# EAGLE library part CS5381-KSZ (library Cirrus_Logic_By_element14_Batch_1)
A/D Converter
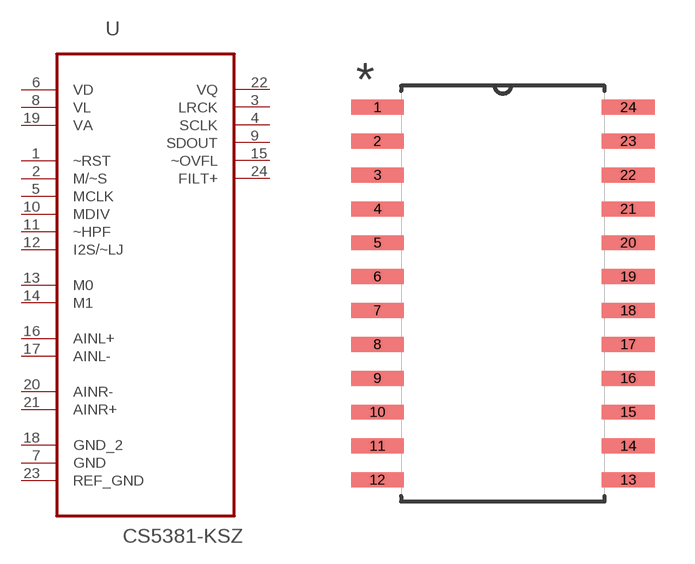
[diagram p15: symbol with the pads of SOIC127P1032X265-24N; footprint SOIC127P1032X265-24N]

Designator prefix U

## CS5381-KSZ (MPN: CS5381-KSZ; OC_FARNELL: 1023416; OC_NEWARK: 72J5473; PACKAGE: SOIC-24; SUPPLIER: CIRRUS LOGIC)  [SOIC127P1032X265-24N]
1  ~RST  in
2  M/~S  in
3  LRCK
4  SCLK
5  MCLK  in
6  VD  pwr
7  GND  pas
8  VL  pwr
9  SDOUT  out
10  MDIV  in
11  ~HPF  in
12  I2S/~LJ  in
13  M0  in
14  M1  in
15  ~OVFL  out
16  AINL+  in
17  AINL-  in
18  GND_2  pas
19  VA  pwr
20  AINR-  in
21  AINR+  in
22  VQ  out
23  REF_GND  in
24  FILT+  out

## Footprint SOIC127P1032X265-24N (pad centres in mm)
smd 1.981 x 0.559: 1 -4.699,6.985; 2 -4.699,5.715; 3 -4.699,4.445; 4 -4.699,3.175; 5 -4.699,1.905; 6 -4.699,0.635; 7 -4.699,-0.635; 8 -4.699,-1.905; 9 -4.699,-3.175; 10 -4.699,-4.445; 11 -4.699,-5.715; 12 -4.699,-6.985; 13 4.699,-6.985; 14 4.699,-5.715; 15 4.699,-4.445; 16 4.699,-3.175; 17 4.699,-1.905; 18 4.699,-0.635; 19 4.699,0.635; 20 4.699,1.905; 21 4.699,3.175; 22 4.699,4.445; 23 4.699,5.715; 24 4.699,6.985